# Altium footprint library PcbLib1.PcbLib: 3 footprints
Each footprint in its own frame and in the unit in brackets; x right, y up, seen from the top. Pads: shape width x height; smd on the part's side, far side on the other; paste and mask are expansions set on the pad; w line width, h text height; cw(c..) or ccw(c..) is an arc to the next point about the centre after c.
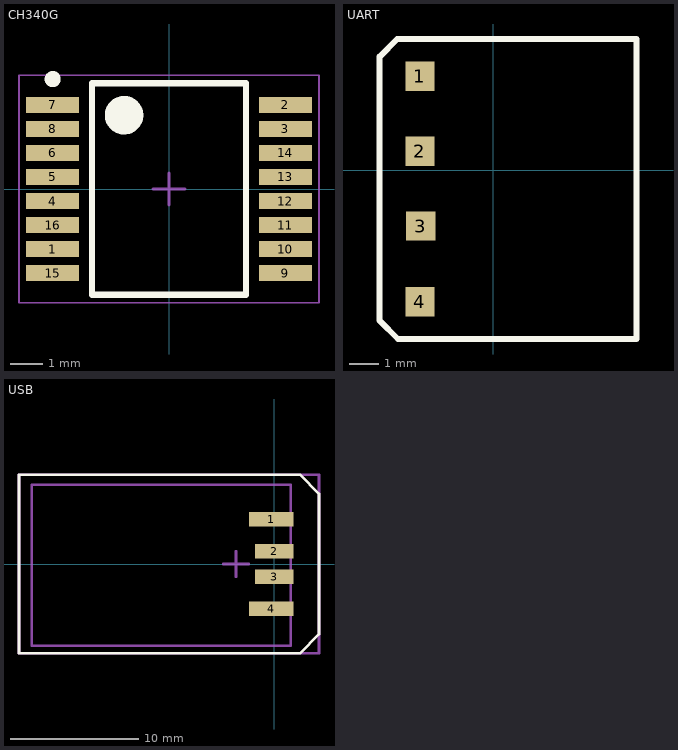
[diagram p0: the footprints below, top view; thin cyan lines are the x and y axes]

## CH340G [mm] "CH340G"
height 5
pads (16):
  rect 1.65x0.5 smd: 1(-3.625,-1.875) 2(3.625,2.625) 3(3.625,1.875) 4(-3.625,-0.375) 5(-3.625,0.375) 6(-3.625,1.125) 7(-3.625,2.625) 8(-3.625,1.875) 9(3.625,-2.625) 10(3.625,-1.875) 11(3.625,-1.125) 12(3.625,-0.375) 13(3.625,0.375) 14(3.625,1.125) 15(-3.625,-2.625) 16(-3.625,-1.125)
Top Overlay:
  circle w0.25: c-3.625,3.425 r0.125
  circle w0.6: c-1.4,2.3 r0.3
  lines w0.2: -2.4,-3.3 -2.4,3.3 2.4,3.3 2.4,-3.3 -2.4,-3.3
Mechanical 15:
  lines w0.05: -4.675,-3.55 -4.675,3.55 4.675,3.55 4.675,-3.55 -4.675,-3.55
  lines w0.1: -0.5,0 0.5,0 ; 0,-0.5 0,0.5
3D body "SW3dPS-ssop-16 pos.STEP": height 1.94, standoff -0.04, extent -3.95,-3.162 3.95,3.162

## UART [mm]
pads (4):
  rect 1x1 smd: 1(-2.5,3.2) 2(-2.5,0.65) 3(-2.475,-1.9) 4(-2.5,-4.475)
Top Overlay:
  lines w0.2: -3.875,-5.125 -3.875,3.875 -3.275,4.475 4.875,4.475 4.875,-5.75 -3.25,-5.75 -3.875,-5.125
3D body "User Library-PLS-4R gold.STEP": height 8.45, standoff 0, extent -3.775,-5.705 4.845,4.455

## USB [mm]
pads (4):
  rect 3.5x1.12 smd: 1(-0.25,3.5) 4(-0.25,-3.5)
  rect 3x1.12 smd: 2(0,1) 3(0,-1)
Top Overlay:
  lines w0.2: -20,-7 2,-7 3.5,-5.5 3.5,5.5 2,7 -20,7 -20,-7
Board:
  lines w0.2: -4,0 -2,0 ; -3,-1 -3,1 ; -20,-7 3.5,-7 3.5,7 -20,7 -20,-7
3D View:
  lines w0.2: -19,-6.403 1.3,-6.403 1.3,6.203 -19,6.203 -19,-6.403
3D body "14381.stp": height 3.2, standoff -2.6, extent -19,-6.403 1.3,6.203